# Altium footprint library WCH.PcbLib: 46 footprints (part 1 of 3)
Each footprint in its own frame and in the unit in brackets; x right, y up, seen from the top. Pads: shape width x height; smd on the part's side, far side on the other; paste and mask are expansions set on the pad; w line width, h text height; cw(c..) or ccw(c..) is an arc to the next point about the centre after c.
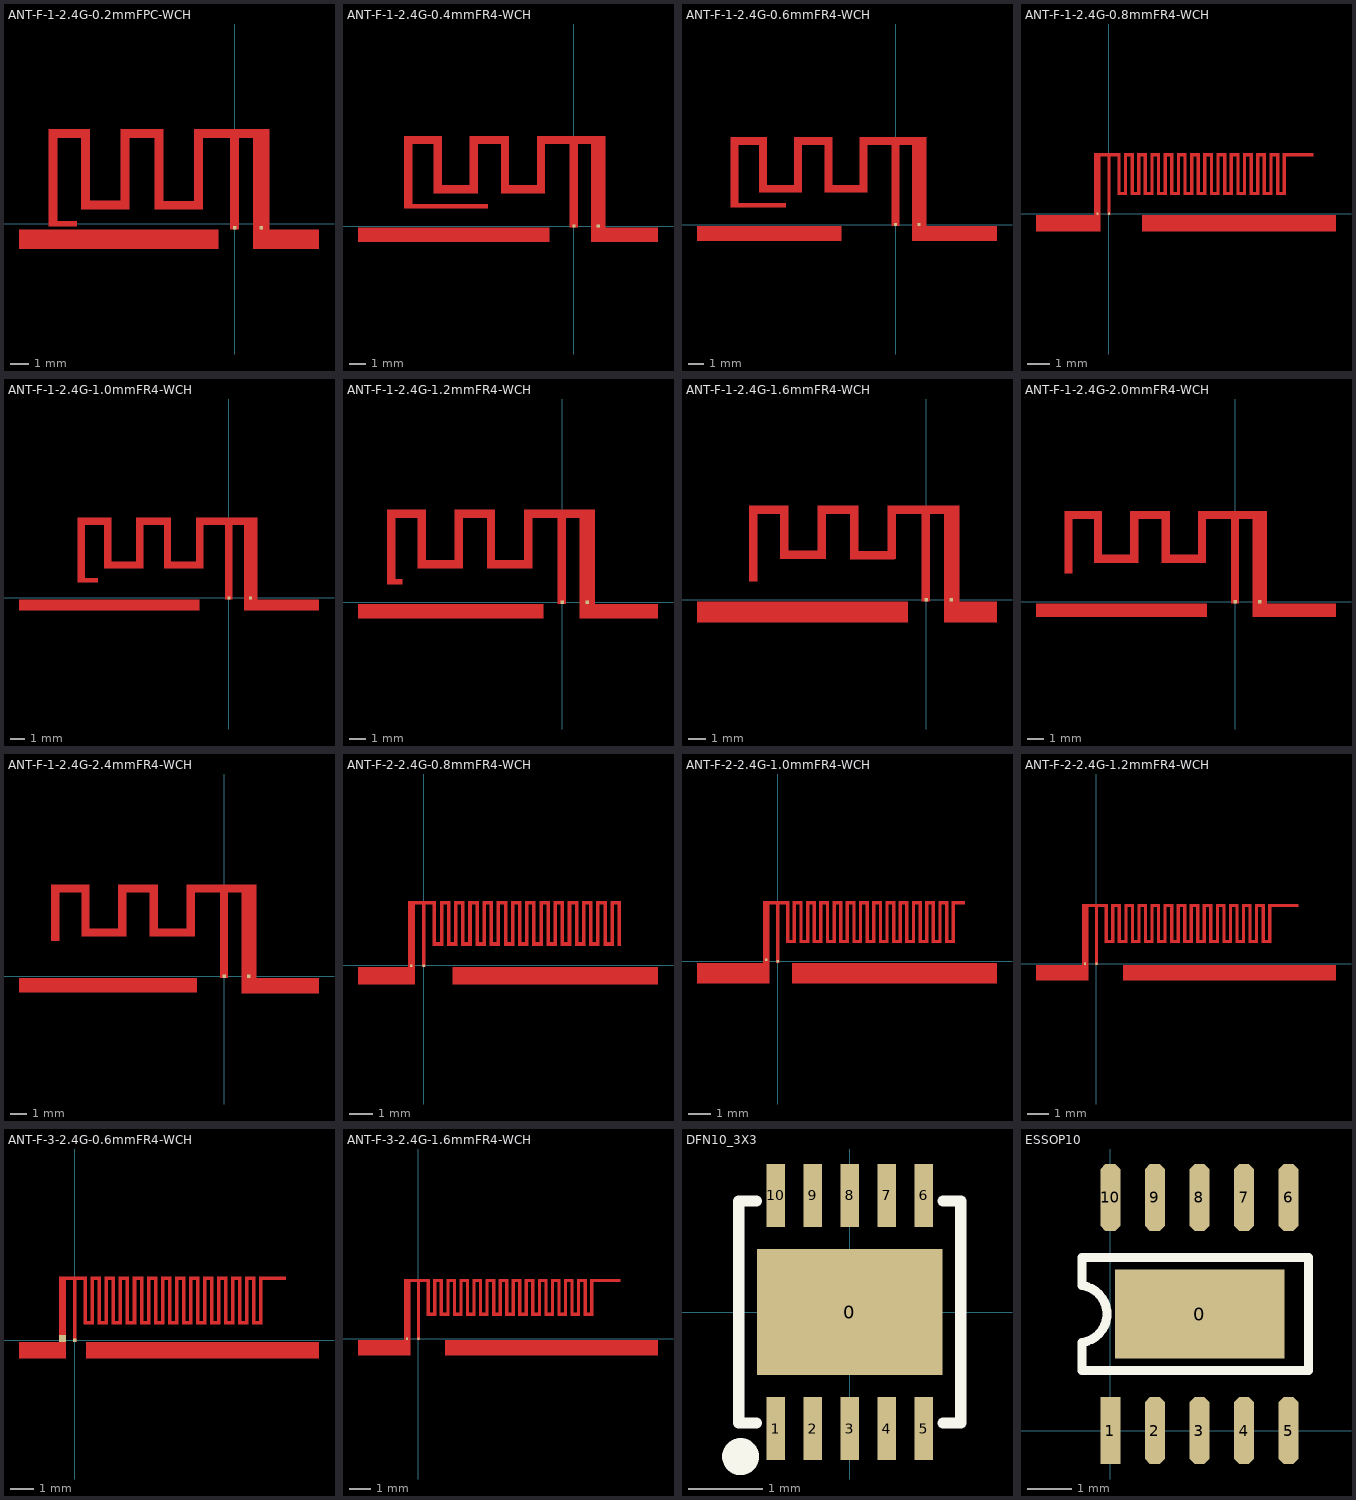
[diagram p0: the footprints below, top view; thin cyan lines are the x and y axes]

## ANT-F-1-2.4G-0.2mmFPC-WCH [mm]
pads (2):
  rect 0.2x0.2 smd mask+0: 0(1.483,-0.204) 1(0,-0.204)
Top Layer:
  region: -9.86,5.296 -10.36,5.296 -10.36,-0.144 -9.86,-0.144
  region: -8.06,5.296 -10.36,5.296 -10.36,4.796 -8.06,4.796
  region: -8.06,5.296 -8.56,5.296 -8.56,0.796 -8.06,0.796
  region: -5.86,1.296 -8.56,1.296 -8.56,0.796 -5.86,0.796
  region: -5.86,5.296 -6.36,5.296 -6.36,0.796 -5.86,0.796
  region: -3.96,5.296 -6.36,5.296 -6.36,4.796 -3.96,4.796
  region: -3.96,5.296 -4.46,5.296 -4.46,0.796 -3.96,0.796
  region: -1.76,1.291 -4.46,1.291 -4.46,0.796 -1.76,0.796
  region: -1.76,5.296 -2.26,5.296 -2.26,0.796 -1.76,0.796
  region: 1.94,5.296 -2.26,5.296 -2.26,4.796 1.94,4.796
  region: 1.94,5.296 1.04,5.296 1.04,-0.304 1.94,-0.304
  region: 0.24,5.027 -0.26,5.027 -0.26,-0.304 0.24,-0.304
  rectangle: -10.36,-0.144 -8.76,0.156
  rectangle: 1.04,-1.4 4.7,-0.304
  rectangle: -12,-1.4 -0.9,-0.304
Mechanical 13:
  text "GND" at -9.2,-1.729 h0.89
  text "GND" at 1.106,-1.729 h0.89
  text "适用FPC板材，0.2mm板厚，封装未开窗，建议天线开窗。技术咨询 tech@wch.cn" at -10.335,-3.328 h0.4

## ANT-F-1-2.4G-0.4mmFR4-WCH [mm]
pads (2):
  rect 0.2x0.2 smd mask+0: 0(1.483,0) 1(0,0)
Top Layer:
  region: -5.26,1.36 -10.36,1.36 -10.36,1.06 -5.26,1.06
  region: 0.24,5.231 -0.26,5.231 -0.26,-0.1 0.24,-0.1
  region: 1.94,5.205 1.04,5.205 1.04,-0.1 1.94,-0.1
  region: 1.94,5.5 -2.26,5.5 -2.26,5 1.94,5
  region: -1.76,5.18 -2.26,5.18 -2.26,2 -1.76,2
  region: -1.85,2.5 -4.39,2.5 -4.39,2 -1.85,2
  region: -3.96,5.18 -4.46,5.18 -4.46,2 -3.96,2
  region: -3.96,5.5 -6.36,5.5 -6.36,5 -3.96,5
  region: -5.86,5.18 -6.36,5.18 -6.36,2 -5.86,2
  region: -5.875,2.5 -8.364,2.5 -8.364,2 -5.875,2
  region: -8.06,5.18 -8.56,5.18 -8.56,2 -8.06,2
  region: -8.06,5.5 -10.36,5.5 -10.36,5 -8.06,5
  region: -9.86,5.18 -10.36,5.18 -10.36,1.06 -9.86,1.06
  rectangle: 1.04,-0.974 5.134,-0.1
  rectangle: -13.183,-0.974 -1.488,-0.1
Mechanical 13:
  text "GND" at 1.106,-1.525 h0.89
  text "GND" at -9.2,-1.525 h0.89
  text "适用FR4板材，0.4mm板厚，封装未开窗，建议天线开窗。技术咨询 tech@wch.cn" at -10.901,-4.729 h0.4

## ANT-F-1-2.4G-0.6mmFR4-WCH [mm]
pads (2):
  rect 0.2x0.2 smd mask+0: 0(1.483,0) 1(0,0)
Top Layer:
  rectangle: -12.459,-1.031 -3.394,-0.1
  rectangle: 1.04,-1.031 6.37,-0.1
  region: -6.86,1.36 -10.36,1.36 -10.36,1.06 -6.86,1.06
  region: 0.24,5.231 -0.26,5.231 -0.26,-0.1 0.24,-0.1
  region: 1.94,5.205 1.04,5.205 1.04,-0.1 1.94,-0.1
  region: 1.94,5.5 -2.26,5.5 -2.26,5 1.94,5
  region: -1.76,5.18 -2.26,5.18 -2.26,2 -1.76,2
  region: -1.85,2.5 -4.39,2.5 -4.39,2 -1.85,2
  region: -3.96,5.18 -4.46,5.18 -4.46,2 -3.96,2
  region: -3.96,5.5 -6.36,5.5 -6.36,5 -3.96,5
  region: -5.86,5.18 -6.36,5.18 -6.36,2 -5.86,2
  region: -5.875,2.5 -8.364,2.5 -8.364,2 -5.875,2
  region: -8.06,5.18 -8.56,5.18 -8.56,2 -8.06,2
  region: -8.06,5.5 -10.36,5.5 -10.36,5 -8.06,5
  region: -9.86,5.18 -10.36,5.18 -10.36,1.06 -9.86,1.06
Mechanical 13:
  text "GND" at -8.615,-1.863 h0.89
  text "GND" at 1.692,-1.863 h0.89
  text "适用FR4板材，0.6mm板厚，封装未开窗，建议天线开窗。技术咨询 tech@wch.cn" at -10.533,-5.177 h0.4

## ANT-F-1-2.4G-0.8mmFR4-WCH [mm]
pads (2):
  rect 0.1x0.1 smd mask+0: 0(-0.525,0) 1(0,0)
Top Layer:
  rectangle: -0.675,-0.05 -0.375,2.75
  rectangle: -0.075,-0.05 0.075,2.75
  region: 0.075,2.6 0.075,2.75 -0.675,2.75 -0.675,2.6
  rectangle: 0.375,0.85 0.525,2.75
  rectangle: 0.675,0.85 0.825,2.75
  rectangle: 0.975,0.85 1.125,2.75
  rectangle: 1.275,0.85 1.425,2.75
  rectangle: 1.575,0.85 1.725,2.75
  rectangle: 0.075,2.6 0.525,2.75
  rectangle: 0.675,2.6 1.125,2.75
  rectangle: 1.275,2.6 1.725,2.75
  rectangle: 0.375,0.85 0.825,1
  rectangle: 0.975,0.85 1.425,1
  rectangle: 2.175,0.85 2.625,1
  rectangle: 1.575,0.85 2.025,1
  rectangle: 2.475,2.6 2.925,2.75
  rectangle: 1.875,2.6 2.325,2.75
  rectangle: 2.775,0.85 2.925,2.75
  rectangle: 2.475,0.85 2.625,2.75
  rectangle: 2.175,0.85 2.325,2.75
  rectangle: 1.875,0.85 2.025,2.75
  rectangle: 3.375,0.85 3.825,1
  rectangle: 2.775,0.85 3.225,1
  rectangle: 3.675,2.6 4.125,2.75
  rectangle: 3.075,2.6 3.525,2.75
  rectangle: 3.975,0.85 4.125,2.75
  rectangle: 3.675,0.85 3.825,2.75
  rectangle: 3.375,0.85 3.525,2.75
  rectangle: 3.075,0.85 3.225,2.75
  rectangle: 4.575,0.85 5.025,1
  rectangle: 3.975,0.85 4.425,1
  rectangle: 4.875,2.6 5.325,2.75
  rectangle: 4.275,2.6 4.725,2.75
  rectangle: 5.175,0.85 5.325,2.75
  rectangle: 4.875,0.85 5.025,2.75
  rectangle: 4.575,0.85 4.725,2.75
  rectangle: 4.275,0.85 4.425,2.75
  rectangle: 5.775,0.85 6.225,1
  rectangle: 5.175,0.85 5.625,1
  rectangle: 6.075,2.6 6.525,2.75
  rectangle: 5.475,2.6 5.925,2.75
  rectangle: 6.375,0.85 6.525,2.75
  rectangle: 6.075,0.85 6.225,2.75
  rectangle: 5.775,0.85 5.925,2.75
  rectangle: 5.475,0.85 5.625,2.75
  rectangle: 6.975,0.85 7.425,1
  rectangle: 6.375,0.85 6.825,1
  rectangle: 7.275,2.6 7.725,2.75
  rectangle: 6.675,2.6 7.125,2.75
  rectangle: 7.575,0.85 7.725,2.75
  rectangle: 7.275,0.85 7.425,2.75
  rectangle: 6.975,0.85 7.125,2.75
  rectangle: 6.675,0.85 6.825,2.75
  rectangle: 7.575,0.85 8.025,1
  rectangle: 7.875,2.6 9.275,2.75
  rectangle: 7.875,0.85 8.025,2.75
  rectangle: 1.506,-0.797 10.3,-0.05
  rectangle: -3.312,-0.797 -0.375,-0.05
Mechanical 13:
  text "GND" at 6.07,-1.419 h0.89
  text "GND" at -3.175,-1.419 h0.89
  text "适用FR4板材，0.8mm板厚，封装未开窗，建议天线开窗。技术咨询 tech@wch.cn" at -2.978,-4.128 h0.4

## ANT-F-1-2.4G-1.0mmFR4-WCH [mm]
pads (2):
  rect 0.2x0.2 smd mask+0: 0(1.483,0) 1(0,0)
Top Layer:
  rectangle: 1.04,-0.863 6.163,-0.1
  rectangle: -14.378,-0.863 -2.035,-0.1
  region: -8.96,1.36 -10.36,1.36 -10.36,1.06 -8.96,1.06
  region: 0.24,5.231 -0.26,5.231 -0.26,-0.1 0.24,-0.1
  region: 1.94,5.205 1.04,5.205 1.04,-0.1 1.94,-0.1
  region: 1.94,5.5 -2.26,5.5 -2.26,5 1.94,5
  region: -1.76,5.18 -2.26,5.18 -2.26,2 -1.76,2
  region: -1.85,2.5 -4.39,2.5 -4.39,2 -1.85,2
  region: -3.96,5.18 -4.46,5.18 -4.46,2 -3.96,2
  region: -3.96,5.5 -6.36,5.5 -6.36,5 -3.96,5
  region: -5.86,5.18 -6.36,5.18 -6.36,2 -5.86,2
  region: -5.875,2.5 -8.364,2.5 -8.364,2 -5.875,2
  region: -8.06,5.18 -8.56,5.18 -8.56,2 -8.06,2
  region: -8.06,5.5 -10.36,5.5 -10.36,5 -8.06,5
  region: -9.86,5.18 -10.36,5.18 -10.36,1.06 -9.86,1.06
Mechanical 13:
  text "适用FR4板材，1.0mm板厚，封装未开窗，建议天线开窗。技术咨询 tech@wch.cn" at -10.487,-4.419 h0.4
  text "GND" at 1.88,-1.447 h0.89
  text "GND" at -8.427,-1.447 h0.89

## ANT-F-1-2.4G-1.2mmFR4-WCH [mm]
pads (2):
  rect 0.2x0.2 smd mask+0: 0(1.483,0) 1(0,0)
Top Layer:
  region: -9.86,5.18 -10.36,5.18 -10.36,1.06 -9.86,1.06
  region: -8.06,5.5 -10.36,5.5 -10.36,5 -8.06,5
  region: -8.06,5.18 -8.56,5.18 -8.56,2 -8.06,2
  region: -5.875,2.5 -8.364,2.5 -8.364,2 -5.875,2
  region: -5.86,5.18 -6.36,5.18 -6.36,2 -5.86,2
  region: -3.96,5.5 -6.36,5.5 -6.36,5 -3.96,5
  region: -3.96,5.18 -4.46,5.18 -4.46,2 -3.96,2
  region: -1.85,2.5 -4.39,2.5 -4.39,2 -1.85,2
  region: -1.76,5.18 -2.26,5.18 -2.26,2 -1.76,2
  region: 1.94,5.5 -2.26,5.5 -2.26,5 1.94,5
  region: 1.94,5.205 1.04,5.205 1.04,-0.1 1.94,-0.1
  region: 0.24,5.231 -0.26,5.231 -0.26,-0.1 0.24,-0.1
  region: -9.46,1.36 -10.36,1.36 -10.36,1.06 -9.46,1.06
  rectangle: -12.086,-0.978 -1.093,-0.1
  rectangle: 1.04,-0.978 5.679,-0.1
Mechanical 13:
  text "适用FR4板材，1.2mm板厚，封装未开窗，建议天线开窗。技术咨询 tech@wch.cn" at -10.498,-4.902 h0.4
  text "GND" at -9.371,-1.808 h0.89
  text "GND" at 0.936,-1.808 h0.89

## ANT-F-1-2.4G-1.6mmFR4-WCH [mm]
pads (2):
  rect 0.2x0.2 smd mask+0: 0(1.483,0) 1(0,0)
Top Layer:
  rectangle: -13.408,-1.335 -1.064,-0.1
  rectangle: 1.04,-1.335 4.149,-0.1
  region: -9.86,5.18 -10.36,5.18 -10.36,1.06 -9.86,1.06
  region: -8.06,5.5 -10.36,5.5 -10.36,5 -8.06,5
  region: -8.06,5.181 -8.56,5.181 -8.56,2.361 -8.06,2.361
  region: -5.875,2.861 -8.364,2.861 -8.364,2.361 -5.875,2.361
  region: -5.86,5.181 -6.36,5.181 -6.36,2.361 -5.86,2.361
  region: -3.96,5.5 -6.36,5.5 -6.36,5 -3.96,5
  region: -3.96,5.18 -4.46,5.18 -4.46,2.36 -3.96,2.36
  region: -1.85,2.855 -4.39,2.855 -4.39,2.36 -1.85,2.36
  region: -1.76,5.181 -2.26,5.181 -2.26,2.361 -1.76,2.361
  region: 1.94,5.5 -2.26,5.5 -2.26,5 1.94,5
  region: 1.94,5.206 1.04,5.206 1.04,-0.1 1.94,-0.1
  region: 0.24,5.231 -0.26,5.231 -0.26,-0.1 0.24,-0.1
Mechanical 13:
  text "适用FR4板材，1.6mm板厚，封装未开窗，建议天线开窗。技术咨询 tech@wch.cn" at -10.511,-5.125 h0.4
  text "GND" at 1.225,-1.74 h0.89
  text "GND" at -9.082,-1.74 h0.89

## ANT-F-1-2.4G-2.0mmFR4-WCH [mm]
pads (2):
  rect 0.2x0.2 smd mask+0: 0(1.483,0) 1(0,0)
Top Layer:
  region: -9.86,5.18 -10.36,5.18 -10.36,1.7 -9.86,1.7
  region: -8.06,5.5 -10.36,5.5 -10.36,5 -8.06,5
  region: -8.06,5.181 -8.56,5.181 -8.56,2.361 -8.06,2.361
  region: -5.875,2.861 -8.364,2.861 -8.364,2.361 -5.875,2.361
  region: -5.86,5.181 -6.36,5.181 -6.36,2.361 -5.86,2.361
  region: -3.96,5.5 -6.36,5.5 -6.36,5 -3.96,5
  region: -3.96,5.18 -4.46,5.18 -4.46,2.36 -3.96,2.36
  region: -1.85,2.855 -4.39,2.855 -4.39,2.36 -1.85,2.36
  region: -1.76,5.181 -2.26,5.181 -2.26,2.361 -1.76,2.361
  region: 1.94,5.5 -2.26,5.5 -2.26,5 1.94,5
  region: 1.94,5.206 1.04,5.206 1.04,-0.1 1.94,-0.1
  region: 0.24,5.231 -0.26,5.231 -0.26,-0.1 0.24,-0.1
  rectangle: -12.073,-0.928 -1.72,-0.1
  rectangle: 1.04,-0.928 6.113,-0.1
Mechanical 13:
  text "GND" at -8.807,-1.841 h0.89
  text "GND" at 1.5,-1.841 h0.89
  text "适用FR4板材，2.0mm板厚，封装未开窗，建议天线开窗。技术咨询 tech@wch.cn" at -10.433,-4.732 h0.4

## ANT-F-1-2.4G-2.4mmFR4-WCH [mm]
pads (2):
  rect 0.2x0.2 smd mask+0: 0(1.483,0) 1(0,0)
Top Layer:
  region: -9.86,5.18 -10.36,5.18 -10.36,2.1 -9.86,2.1
  region: -8.06,5.5 -10.36,5.5 -10.36,5 -8.06,5
  region: -8.06,5.181 -8.56,5.181 -8.56,2.361 -8.06,2.361
  region: -5.875,2.861 -8.364,2.861 -8.364,2.361 -5.875,2.361
  region: -5.86,5.181 -6.36,5.181 -6.36,2.361 -5.86,2.361
  region: -3.96,5.5 -6.36,5.5 -6.36,5 -3.96,5
  region: -3.96,5.18 -4.46,5.18 -4.46,2.36 -3.96,2.36
  region: -1.85,2.855 -4.39,2.855 -4.39,2.36 -1.85,2.36
  region: -1.76,5.181 -2.26,5.181 -2.26,2.361 -1.76,2.361
  region: 1.94,5.5 -2.26,5.5 -2.26,5 1.94,5
  region: 1.94,5.206 1.04,5.206 1.04,-0.1 1.94,-0.1
  region: 0.24,5.231 -0.26,5.231 -0.26,-0.1 0.24,-0.1
  rectangle: -12.291,-0.983 -1.62,-0.1
  rectangle: 1.04,-1.05 5.683,-0.1
Mechanical 13:
  text "GND" at 2.044,-1.666 h0.89
  text "GND" at -8.263,-1.666 h0.89
  text "适用FR4板材，2.4mm板厚，封装未开窗，建议天线开窗。技术咨询 tech@wch.cn" at -10.269,-5.379 h0.4

## ANT-F-2-2.4G-0.8mmFR4-WCH [mm]
pads (2):
  rect 0.1x0.1 smd mask+0: 0(-0.525,-0.025) 1(0,-0.025)
Top Layer:
  rectangle: -2.777,-0.802 -0.375,-0.075
  rectangle: 1.215,-0.802 9.885,-0.075
  rectangle: 7.875,2.575 8.325,2.725
  rectangle: 8.175,0.825 8.325,2.725
  rectangle: -0.675,-0.075 -0.375,2.725
  rectangle: -0.075,-0.075 0.075,2.725
  region: 0.075,2.575 0.075,2.725 -0.675,2.725 -0.675,2.575
  rectangle: 0.375,0.825 0.525,2.725
  rectangle: 0.675,0.825 0.825,2.725
  rectangle: 0.975,0.825 1.125,2.725
  rectangle: 1.275,0.825 1.425,2.725
  rectangle: 1.575,0.825 1.725,2.725
  rectangle: -0.075,2.575 0.525,2.725
  rectangle: 0.675,2.575 1.125,2.725
  rectangle: 1.275,2.575 1.725,2.725
  rectangle: 0.375,0.825 0.825,0.975
  rectangle: 0.975,0.825 1.425,0.975
  rectangle: 2.175,0.825 2.625,0.975
  rectangle: 1.575,0.825 2.025,0.975
  rectangle: 2.475,2.575 2.925,2.725
  rectangle: 1.875,2.575 2.325,2.725
  rectangle: 2.775,0.825 2.925,2.725
  rectangle: 2.475,0.825 2.625,2.725
  rectangle: 2.175,0.825 2.325,2.725
  rectangle: 1.875,0.825 2.025,2.725
  rectangle: 3.375,0.825 3.825,0.975
  rectangle: 2.775,0.825 3.225,0.975
  rectangle: 3.675,2.575 4.125,2.725
  rectangle: 3.075,2.575 3.525,2.725
  rectangle: 3.975,0.825 4.125,2.725
  rectangle: 3.675,0.825 3.825,2.725
  rectangle: 3.375,0.825 3.525,2.725
  rectangle: 3.075,0.825 3.225,2.725
  rectangle: 4.575,0.825 5.025,0.975
  rectangle: 3.975,0.825 4.425,0.975
  rectangle: 4.875,2.575 5.325,2.725
  rectangle: 4.275,2.575 4.725,2.725
  rectangle: 5.175,0.825 5.325,2.725
  rectangle: 4.875,0.825 5.025,2.725
  rectangle: 4.575,0.825 4.725,2.725
  rectangle: 4.275,0.825 4.425,2.725
  rectangle: 5.775,0.825 6.225,0.975
  rectangle: 5.175,0.825 5.625,0.975
  rectangle: 6.075,2.575 6.525,2.725
  rectangle: 5.475,2.575 5.925,2.725
  rectangle: 6.375,0.825 6.525,2.725
  rectangle: 6.075,0.825 6.225,2.725
  rectangle: 5.775,0.825 5.925,2.725
  rectangle: 5.475,0.825 5.625,2.725
  rectangle: 6.975,0.825 7.425,0.975
  rectangle: 6.375,0.825 6.825,0.975
  rectangle: 7.275,2.575 7.725,2.725
  rectangle: 6.675,2.575 7.125,2.725
  rectangle: 7.575,0.825 7.725,2.725
  rectangle: 7.275,0.825 7.425,2.725
  rectangle: 6.975,0.825 7.125,2.725
  rectangle: 6.675,0.825 6.825,2.725
  rectangle: 7.575,0.825 8.025,0.975
  rectangle: 7.875,0.825 8.025,2.725
Mechanical 13:
  text "适用FR4板材，0.8mm板厚，封装未开窗，建议天线开窗。技术咨询 tech@wch.cn" at -3.002,-4.172 h0.4
  text "GND" at 3.964,-1.393 h0.89
  text "GND" at -2.691,-1.393 h0.89

## ANT-F-2-2.4G-1.0mmFR4-WCH [mm]
pads (2):
  rect 0.1x0.1 smd mask+0: 0(-0.525,0.075) 1(0,0)
Top Layer:
  rectangle: 0.633,-1.001 9.934,-0.075
  rectangle: -3.664,-1.001 -0.375,-0.075
  rectangle: 7.875,2.575 8.475,2.725
  rectangle: 7.875,0.825 8.025,2.725
  rectangle: 7.575,0.825 8.025,0.975
  rectangle: 6.675,0.825 6.825,2.725
  rectangle: 6.975,0.825 7.125,2.725
  rectangle: 7.275,0.825 7.425,2.725
  rectangle: 7.575,0.825 7.725,2.725
  rectangle: 6.675,2.575 7.125,2.725
  rectangle: 7.275,2.575 7.725,2.725
  rectangle: 6.375,0.825 6.825,0.975
  rectangle: 6.975,0.825 7.425,0.975
  rectangle: 5.475,0.825 5.625,2.725
  rectangle: 5.775,0.825 5.925,2.725
  rectangle: 6.075,0.825 6.225,2.725
  rectangle: 6.375,0.825 6.525,2.725
  rectangle: 5.475,2.575 5.925,2.725
  rectangle: 6.075,2.575 6.525,2.725
  rectangle: 5.175,0.825 5.625,0.975
  rectangle: 5.775,0.825 6.225,0.975
  rectangle: 4.275,0.825 4.425,2.725
  rectangle: 4.575,0.825 4.725,2.725
  rectangle: 4.875,0.825 5.025,2.725
  rectangle: 5.175,0.825 5.325,2.725
  rectangle: 4.275,2.575 4.725,2.725
  rectangle: 4.875,2.575 5.325,2.725
  rectangle: 3.975,0.825 4.425,0.975
  rectangle: 4.575,0.825 5.025,0.975
  rectangle: 3.075,0.825 3.225,2.725
  rectangle: 3.375,0.825 3.525,2.725
  rectangle: 3.675,0.825 3.825,2.725
  rectangle: 3.975,0.825 4.125,2.725
  rectangle: 3.075,2.575 3.525,2.725
  rectangle: 3.675,2.575 4.125,2.725
  rectangle: 2.775,0.825 3.225,0.975
  rectangle: 3.375,0.825 3.825,0.975
  rectangle: 1.875,0.825 2.025,2.725
  rectangle: 2.175,0.825 2.325,2.725
  rectangle: 2.475,0.825 2.625,2.725
  rectangle: 2.775,0.825 2.925,2.725
  rectangle: 1.875,2.575 2.325,2.725
  rectangle: 2.475,2.575 2.925,2.725
  rectangle: 1.575,0.825 2.025,0.975
  rectangle: 2.175,0.825 2.625,0.975
  rectangle: 0.975,0.825 1.425,0.975
  rectangle: 0.375,0.825 0.825,0.975
  rectangle: 1.275,2.575 1.725,2.725
  rectangle: 0.675,2.575 1.125,2.725
  rectangle: 0.075,2.575 0.525,2.725
  rectangle: 1.575,0.825 1.725,2.725
  rectangle: 1.275,0.825 1.425,2.725
  rectangle: 0.975,0.825 1.125,2.725
  rectangle: 0.675,0.825 0.825,2.725
  rectangle: 0.375,0.825 0.525,2.725
  region: 0.075,2.575 0.075,2.725 -0.675,2.725 -0.675,2.575
  rectangle: -0.075,-0.075 0.075,2.725
  rectangle: -0.675,-0.075 -0.375,2.725
Mechanical 13:
  text "适用FR4板材，1.0mm板厚，封装未开窗，建议天线开窗。技术咨询 tech@wch.cn" at -3.825,-2.709 h0.4
  text "GND" at -3.874,-1.213 h0.89
  text "GND" at 6.433,-1.213 h0.89

## ANT-F-2-2.4G-1.2mmFR4-WCH [mm]
pads (2):
  rect 0.1x0.1 smd mask+0: 0(-0.525,0) 1(0,0)
Top Layer:
  rectangle: -0.675,-0.05 -0.375,2.75
  rectangle: -0.075,-0.05 0.075,2.75
  region: 0.075,2.6 0.075,2.75 -0.675,2.75 -0.675,2.6
  rectangle: 0.375,0.95 0.525,2.75
  rectangle: 0.675,0.95 0.825,2.75
  rectangle: 0.975,0.95 1.125,2.75
  rectangle: 1.275,0.95 1.425,2.75
  rectangle: 1.575,0.95 1.725,2.75
  rectangle: 0.075,2.6 0.525,2.75
  rectangle: 0.675,2.6 1.125,2.75
  rectangle: 1.275,2.6 1.725,2.75
  rectangle: 0.375,0.95 0.825,1.1
  rectangle: 0.975,0.95 1.425,1.1
  rectangle: 2.175,0.95 2.625,1.1
  rectangle: 1.575,0.95 2.025,1.1
  rectangle: 2.475,2.6 2.925,2.75
  rectangle: 1.875,2.6 2.325,2.75
  rectangle: 2.775,0.95 2.925,2.75
  rectangle: 2.475,0.95 2.625,2.75
  rectangle: 2.175,0.95 2.325,2.75
  rectangle: 1.875,0.95 2.025,2.75
  rectangle: 3.375,0.95 3.825,1.1
  rectangle: 2.775,0.95 3.225,1.1
  rectangle: 3.675,2.6 4.125,2.75
  rectangle: 3.075,2.6 3.525,2.75
  rectangle: 3.975,0.95 4.125,2.75
  rectangle: 3.675,0.95 3.825,2.75
  rectangle: 3.375,0.95 3.525,2.75
  rectangle: 3.075,0.95 3.225,2.75
  rectangle: 4.575,0.95 5.025,1.1
  rectangle: 3.975,0.95 4.425,1.1
  rectangle: 4.875,2.6 5.325,2.75
  rectangle: 4.275,2.6 4.725,2.75
  rectangle: 5.175,0.95 5.325,2.75
  rectangle: 4.875,0.95 5.025,2.75
  rectangle: 4.575,0.95 4.725,2.75
  rectangle: 4.275,0.95 4.425,2.75
  rectangle: 5.775,0.95 6.225,1.1
  rectangle: 5.175,0.95 5.625,1.1
  rectangle: 6.075,2.6 6.525,2.75
  rectangle: 5.475,2.6 5.925,2.75
  rectangle: 6.375,0.95 6.525,2.75
  rectangle: 6.075,0.95 6.225,2.75
  rectangle: 5.775,0.95 5.925,2.75
  rectangle: 5.475,0.95 5.625,2.75
  rectangle: 6.975,0.95 7.425,1.1
  rectangle: 6.375,0.95 6.825,1.1
  rectangle: 7.275,2.6 7.725,2.75
  rectangle: 6.675,2.6 7.125,2.75
  rectangle: 7.575,0.95 7.725,2.75
  rectangle: 7.275,0.95 7.425,2.75
  rectangle: 6.975,0.95 7.125,2.75
  rectangle: 6.675,0.95 6.825,2.75
  rectangle: 7.575,0.95 8.025,1.1
  rectangle: 7.875,2.6 9.275,2.75
  rectangle: 7.875,0.95 8.025,2.75
  rectangle: 1.215,-0.777 10.994,-0.05
  rectangle: -2.777,-0.777 -0.375,-0.05
Mechanical 13:
  text "适用FR4板材，1.2mm板厚，封装未开窗，建议天线开窗。技术咨询 tech@wch.cn" at -2.709,-3.856 h0.4
  text "GND" at -3.295,-1.368 h0.89
  text "GND" at 3.964,-1.368 h0.89

## ANT-F-3-2.4G-0.6mmFR4-WCH [mm]
pads (2):
  rect 0.3x0.3 smd mask+0: 0(-0.525,0.075)
  rect 0.15x0.15 smd mask+0: 1(0,0)
Top Layer:
  rectangle: -0.675,-0.075 -0.375,2.725
  rectangle: -0.075,-0.075 0.075,2.725
  region: 0.075,2.575 0.075,2.725 -0.675,2.725 -0.675,2.575
  rectangle: 0.375,0.675 0.525,2.725
  rectangle: 0.675,0.675 0.825,2.725
  rectangle: 0.975,0.675 1.125,2.725
  rectangle: 1.275,0.675 1.425,2.725
  rectangle: 1.575,0.675 1.725,2.725
  rectangle: 0.075,2.575 0.525,2.725
  rectangle: 0.675,2.575 1.125,2.725
  rectangle: 1.275,2.575 1.725,2.725
  rectangle: 0.375,0.675 0.825,0.825
  rectangle: 0.975,0.675 1.425,0.825
  rectangle: 2.175,0.675 2.625,0.825
  rectangle: 1.575,0.675 2.025,0.825
  rectangle: 2.475,2.575 2.925,2.725
  rectangle: 1.875,2.575 2.325,2.725
  rectangle: 2.775,0.675 2.925,2.725
  rectangle: 2.475,0.675 2.625,2.725
  rectangle: 2.175,0.675 2.325,2.725
  rectangle: 1.875,0.675 2.025,2.725
  rectangle: 3.375,0.675 3.825,0.825
  rectangle: 2.775,0.675 3.225,0.825
  rectangle: 3.675,2.575 4.125,2.725
  rectangle: 3.075,2.575 3.525,2.725
  rectangle: 3.975,0.675 4.125,2.725
  rectangle: 3.675,0.675 3.825,2.725
  rectangle: 3.375,0.675 3.525,2.725
  rectangle: 3.075,0.675 3.225,2.725
  rectangle: 4.575,0.675 5.025,0.825
  rectangle: 3.975,0.675 4.425,0.825
  rectangle: 4.875,2.575 5.325,2.725
  rectangle: 4.275,2.575 4.725,2.725
  rectangle: 5.175,0.675 5.325,2.725
  rectangle: 4.875,0.675 5.025,2.725
  rectangle: 4.575,0.675 4.725,2.725
  rectangle: 4.275,0.675 4.425,2.725
  rectangle: 5.775,0.675 6.225,0.825
  rectangle: 5.175,0.675 5.625,0.825
  rectangle: 6.075,2.575 6.525,2.725
  rectangle: 5.475,2.575 5.925,2.725
  rectangle: 6.375,0.675 6.525,2.725
  rectangle: 6.075,0.675 6.225,2.725
  rectangle: 5.775,0.675 5.925,2.725
  rectangle: 5.475,0.675 5.625,2.725
  rectangle: 6.975,0.675 7.425,0.825
  rectangle: 6.375,0.675 6.825,0.825
  rectangle: 7.275,2.575 7.725,2.725
  rectangle: 6.675,2.575 7.125,2.725
  rectangle: 7.575,0.675 7.725,2.725
  rectangle: 7.275,0.675 7.425,2.725
  rectangle: 6.975,0.675 7.125,2.725
  rectangle: 6.675,0.675 6.825,2.725
  rectangle: 7.575,0.675 8.025,0.825
  rectangle: 7.875,2.575 9.025,2.725
  rectangle: 7.875,0.675 8.025,2.725
  rectangle: 0.484,-0.765 10.438,-0.075
  rectangle: -2.388,-0.765 -0.375,-0.075
Mechanical 13:
  text "GND" at 4.348,-1.194 h0.89
  text "GND" at -2.911,-1.194 h0.89
  text "适用FR4板材，0.6mm板厚，封装未开窗，建议天线开窗。技术咨询 tech@wch.cn" at -3.041,-2.982 h0.4

## ANT-F-3-2.4G-1.6mmFR4-WCH [mm]
pads (2):
  rect 0.1x0.1 smd mask+0: 0(-0.525,0) 1(0,0)
Top Layer:
  rectangle: 7.875,1.05 8.025,2.75
  rectangle: 7.875,2.6 9.275,2.75
  rectangle: 7.575,1.05 8.025,1.2
  rectangle: 6.675,1.05 6.825,2.75
  rectangle: 6.975,1.05 7.125,2.75
  rectangle: 7.275,1.05 7.425,2.75
  rectangle: 7.575,1.05 7.725,2.75
  rectangle: 6.675,2.6 7.125,2.75
  rectangle: 7.275,2.6 7.725,2.75
  rectangle: 6.375,1.05 6.825,1.2
  rectangle: 6.975,1.05 7.425,1.2
  rectangle: 5.475,1.05 5.625,2.75
  rectangle: 5.775,1.05 5.925,2.75
  rectangle: 6.075,1.05 6.225,2.75
  rectangle: 6.375,1.05 6.525,2.75
  rectangle: 5.475,2.6 5.925,2.75
  rectangle: 6.075,2.6 6.525,2.75
  rectangle: 5.175,1.05 5.625,1.2
  rectangle: 5.775,1.05 6.225,1.2
  rectangle: 4.275,1.05 4.425,2.75
  rectangle: 4.575,1.05 4.725,2.75
  rectangle: 4.875,1.05 5.025,2.75
  rectangle: 5.175,1.05 5.325,2.75
  rectangle: 4.275,2.6 4.725,2.75
  rectangle: 4.875,2.6 5.325,2.75
  rectangle: 3.975,1.05 4.425,1.2
  rectangle: 4.575,1.05 5.025,1.2
  rectangle: 3.075,1.05 3.225,2.75
  rectangle: 3.375,1.05 3.525,2.75
  rectangle: 3.675,1.05 3.825,2.75
  rectangle: 3.975,1.05 4.125,2.75
  rectangle: 3.075,2.6 3.525,2.75
  rectangle: 3.675,2.6 4.125,2.75
  rectangle: 2.775,1.05 3.225,1.2
  rectangle: 3.375,1.05 3.825,1.2
  rectangle: 1.875,1.05 2.025,2.75
  rectangle: 2.175,1.05 2.325,2.75
  rectangle: 2.475,1.05 2.625,2.75
  rectangle: 2.775,1.05 2.925,2.75
  rectangle: 1.875,2.6 2.325,2.75
  rectangle: 2.475,2.6 2.925,2.75
  rectangle: 1.575,1.05 2.025,1.2
  rectangle: 2.175,1.05 2.625,1.2
  rectangle: 0.975,1.05 1.425,1.2
  rectangle: 0.375,1.05 0.825,1.2
  rectangle: 1.275,2.6 1.725,2.75
  rectangle: 0.675,2.6 1.125,2.75
  rectangle: 0.075,2.6 0.525,2.75
  rectangle: 1.575,1.05 1.725,2.75
  rectangle: 1.275,1.05 1.425,2.75
  rectangle: 0.975,1.05 1.125,2.75
  rectangle: 0.675,1.05 0.825,2.75
  rectangle: 0.375,1.05 0.525,2.75
  region: 0.075,2.6 0.075,2.75 -0.675,2.75 -0.675,2.6
  rectangle: -0.075,-0.05 0.075,2.75
  rectangle: -0.675,-0.05 -0.375,2.75
  rectangle: -2.777,-0.777 -0.375,-0.05
  rectangle: 1.215,-0.777 10.994,-0.05
Mechanical 13:
  text "适用FR4板材，1.6mm板厚，封装未开窗，建议天线开窗。技术咨询 tech@wch.cn" at -2.758,-4.352 h0.4
  text "GND" at -2.792,-1.368 h0.89
  text "GND" at 3.964,-1.368 h0.89

## DFN10_3X3 [mm]
pads (11):
  rect 2.5x1.7 smd mask+0.051: 0(0,0)
  rect 0.25x0.85 smd mask+0.051: 1(-1,-1.575) 2(-0.5,-1.575) 3(0,-1.575) 4(0.5,-1.575) 5(1,-1.575) 6(1,1.575) 7(0.5,1.575) 8(0,1.575) 9(-0.5,1.575) 10(-1,1.575)
Top Overlay:
  circle w0.3: c-1.474,-1.954 r0.1
  lines w0.152: -1.264,-1.5 -1.5,-1.5 -1.5,1.5 -1.264,1.5 ; 1.264,-1.5 1.5,-1.5 1.5,1.5 1.264,1.5
3D body "DFN10_3x3.step": height 0.76, standoff 0, extent -1.5,-1.501 1.5,1.501

## ESSOP10 [mm]
pads (11):
  rect 3.8x2 smd: 0(2.007,2.616)
  rect 0.45x1.5 smd: 1(0,0)
  oct 0.45x1.5 smd: 2(1,0) 3(2,0) 4(3,0) 5(4,0) 6(4,5.232) 7(3,5.232) 8(2,5.232) 9(1,5.232) 10(0,5.232)
Top Overlay:
  lines w0.203: -0.635,1.346 4.445,1.346 4.445,3.886 -0.635,3.886 -0.635,3.251 cw(c-0.714,2.616) -0.635,1.981 -0.635,1.346
3D body "ESSOP-10.STEP": height 1.55, standoff 0, extent -0.45,-0.384 4.45,5.616